# Altium footprint library SX1276_e269v01a.PcbLib: 66 footprints (part 5 of 5)
Each footprint in its own frame and in the unit in brackets; x right, y up, seen from the top. Pads: shape width x height; smd on the part's side, far side on the other; paste and mask are expansions set on the pad; w line width, h text height; cw(c..) or ccw(c..) is an arc to the next point about the centre after c.
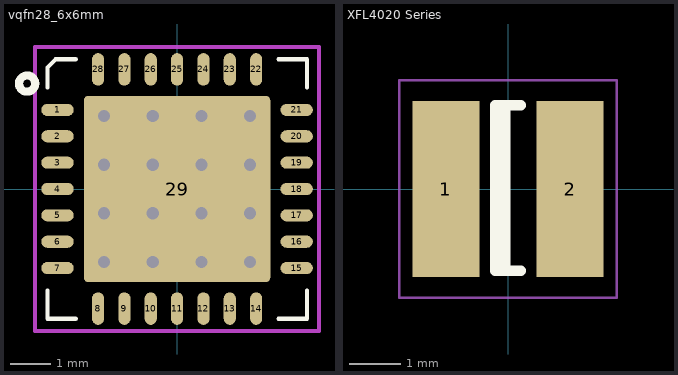
[diagram p4: the footprints below, top view; thin cyan lines are the x and y axes]

## vqfn28_6x6mm [mm] "28 Leads, Body 6.0x6.0mm, Pitch 0.65mm, VQFN28"
height 1
pads (29):
  oval 0.8x0.3 smd mask+0.05: 1(-2.95,1.95) 2(-2.95,1.3) 3(-2.95,0.65) 4(-2.95,0) 5(-2.95,-0.65) 6(-2.95,-1.3) 7(-2.95,-1.95) 15(2.95,-1.95) 16(2.95,-1.3) 17(2.95,-0.65) 18(2.95,0) 19(2.95,0.65) 20(2.95,1.3) 21(2.95,1.95)
  oval 0.3x0.8 smd mask+0.05: 8(-1.95,-2.95) 9(-1.3,-2.95) 10(-0.65,-2.95) 11(0,-2.95) 12(0.65,-2.95) 13(1.3,-2.95) 14(1.95,-2.95) 22(1.95,2.95) 23(1.3,2.95) 24(0.65,2.95) 25(0,2.95) 26(-0.65,2.95) 27(-1.3,2.95) 28(-1.95,2.95)
  rrect5% 4.6x4.6 smd paste-3.3 mask+0.05: 29(0,0)
via 1.8,0.6 diameter 0.6 hole 0.3
via 1.8,1.8 diameter 0.6 hole 0.3
via 0.6,1.8 diameter 0.6 hole 0.3
via 0.6,0.6 diameter 0.6 hole 0.3
via -0.6,-0.6 diameter 0.6 hole 0.3
via -0.6,0.6 diameter 0.6 hole 0.3
via -0.6,1.8 diameter 0.6 hole 0.3
via -1.8,-1.8 diameter 0.6 hole 0.3
via -0.6,-1.8 diameter 0.6 hole 0.3
via 1.8,-1.8 diameter 0.6 hole 0.3
via 0.6,-0.6 diameter 0.6 hole 0.3
via -1.8,0.6 diameter 0.6 hole 0.3
via -1.8,-0.6 diameter 0.6 hole 0.3
via -1.8,1.8 diameter 0.6 hole 0.3
via 1.8,-0.6 diameter 0.6 hole 0.3
via 0.6,-1.8 diameter 0.6 hole 0.3
Top Overlay:
  circle w0.2: c-3.7,2.6 r0.2
  lines w0.1: -3.2,-2.5 -3.2,-3.2 -2.5,-3.2 ; -3.2,2.5 -3.2,3 -3,3.2 -2.5,3.2 ; 2.5,-3.2 3.2,-3.2 3.2,-2.5 ; 2.5,3.2 3.2,3.2 3.2,2.5
Top Paste:
  region: 0.8,1.6 0.8,0.8 1.6,0.8 1.6,1.6
  region: -0.4,0.4 -0.4,-0.4 0.4,-0.4 0.4,0.4
  region: -1.6,0.4 -1.6,-0.4 -0.8,-0.4 -0.8,0.4
  region: -0.4,1.6 -0.4,0.8 0.4,0.8 0.4,1.6
  region: -1.6,1.6 -1.6,0.8 -0.8,0.8 -0.8,1.6
  region: 0.8,0.4 0.8,-0.4 1.6,-0.4 1.6,0.4
  region: -0.4,-0.8 -0.4,-1.6 0.4,-1.6 0.4,-0.8
  region: 0.8,-0.8 0.8,-1.6 1.6,-1.6 1.6,-0.8
  region: -1.6,-0.8 -1.6,-1.6 -0.8,-1.6 -0.8,-0.8
Mechanical 15 keep-out:
  lines w0.1: -3.5,-3.5 3.5,-3.5 3.5,3.5 -3.5,3.5 -3.5,-3.5
3D body: height 1, standoff 0.05, extent -3,-3 3,3

## XFL4020 Series [mm] "Chip SMD component ; Body 4.0 x 4.0 mm (LxW typ)"
height 2.1
pads (2):
  rect 1.3x3.4 smd mask+0.05: 1(-1.2,0) 2(1.2,0)
Top Overlay:
  lines w0.2: -0.056,-1.579 -0.056,1.621 ; 0.25,-1.579 -0.246,-1.579 -0.246,1.621 0.25,1.621
Mechanical 15:
  lines w0.05: -2.1,-2.1 2.1,-2.1 2.1,2.1 -2.1,2.1 -2.1,-2.1